# EAGLE library part HX711 (library UNIT_Biblioteca_Modulos)
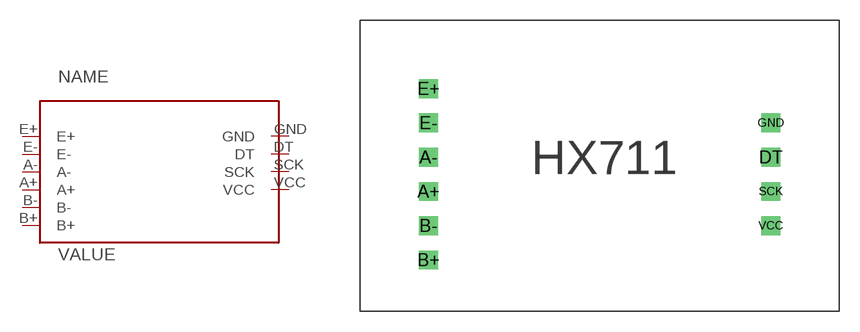
[diagram p4: symbol with the pads of HX711; footprint HX711]

Designator prefix -

## HX711A  [HX711]
A+  A+
A-  A-
B+  B+
B-  B-
DT  DT
E+  E+
E-  E-
GND  GND
SCK  SCK
VCC  VCC

## Footprint HX711 (pad centres in mm)
drill 0.9 square: A+ 8.89,21.59; A- 8.89,24.13; B+ 8.89,16.51; B- 8.89,19.05; DT 34.29,24.13; E+ 8.89,29.21; E- 8.89,26.67; GND 34.29,26.67; SCK 34.29,21.59; VCC 34.29,19.05